# Altium schematic symbol library TMC4671-EVAL_V1_2.SchLib: 16 symbols
Pins are listed as number, name and electrical type; pins without a type are passive.

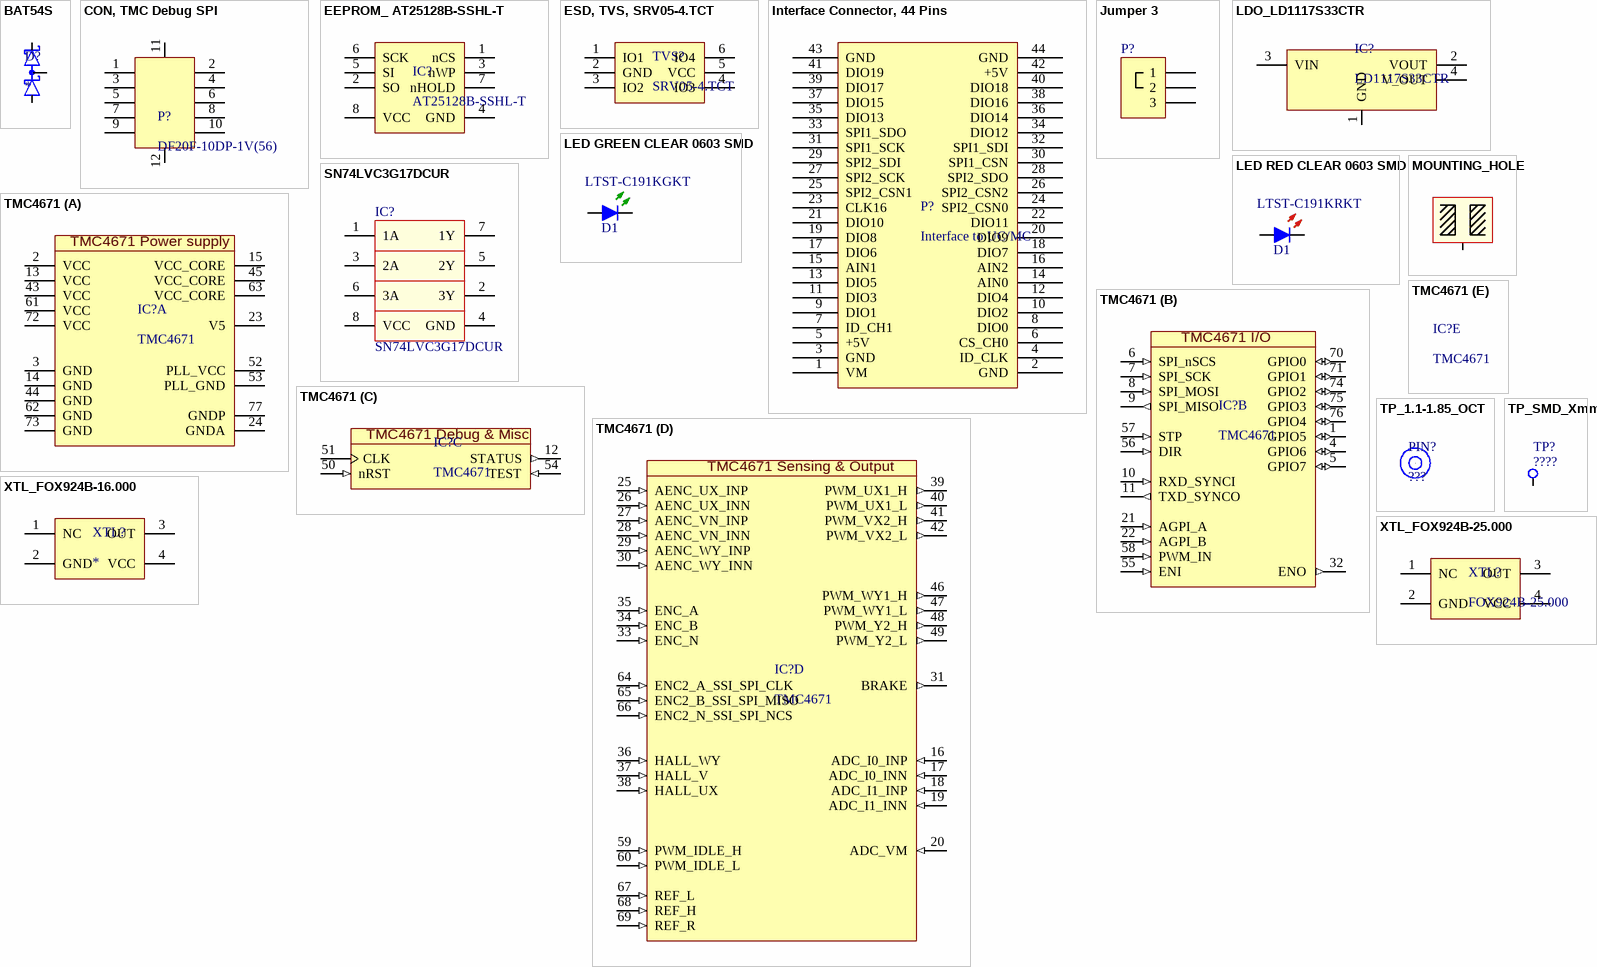
[diagram p0: symbols BAT54S to XTL_FOX924B-25.000]

## BAT54S
designator D?
Small Signal Schottky Diode, Dual Series, 30 V, 200 mA, 1 V, 600 mA, 125 °C; MPN: BAT54S; MF: TAIWAN SEMICONDUCTOR
footprint SOT95P237X130-3N (SOT23, 3-Leads, Body 2,90x2,37mm, Pitch 0,95mm, IPC Medium Density)
pins: 1 A1, 2 C2, 3 C1A2

## CON, TMC Debug SPI
designator P?, comment DF20F-10DP-1V(56)
Wire-To-Board Connector, 1 mm, 10 Contacts, Header, DF20 Series, Surface Mount, 2 Rows; MF: Hirose Electric Co Ltd; MPN: DF20F-10DP-1V(56)
footprint CON, TMC Debug SPI (Footprint not found)
pins: 1, 2, 3, 4, 5, 6, 7, 8, 9, 10, 11, 12

## EEPROM_ AT25128B-SSHL-T
designator IC?, comment AT25128B-SSHL-T
EEPROM, SPI, 128 Kbit, 16K x 8bit, 20 MHz, SOIC, 8 Pins; MF: MICROCHIP; MPN: AT25128B-SSHL-T
footprint SOP127P600X175-8N (SOP, 8-Leads, Body 4,92x3,90mm, Pitch 1,27mm, IPC Medium Density)
pins: 1 nCS, 2 SO, 3 nWP, 4 GND, 5 SI, 6 SCK, 7 nHOLD, 8 VCC

## ESD, TVS, SRV05-4.TCT
designator TVS?, comment SRV05-4.TCT
ESD Protection Device, TVS, 17.5 V, SOT-23, 6 Pins, 5 V, 300 W; MF: SEMTECH; MPN: SRV05-4.TCT
footprint SOT95P280X145-6N (SOT23, 6-Leads, Body 2,95x2,80mm, Pitch 0,95mm, IPC Medium Density)
pins: 1 IO1, 2 GND, 3 IO2, 4 IO3, 5 VCC, 6 IO4

## Interface Connector, 44 Pins
designator P?, comment Interface to UC/MC
Board-To-Board Connector, 2.54 mm, 44 Contacts, Receptacle, HLE Series, Surface Mount, 2 Rows; MPN: HLE-122-02-L-DV; MF: SAMTEC
footprint Interface_Connector
pins: 1 VM, 2 GND, 3 GND, 4 ID_CLK, 5 +5V, 6 CS_CH0, 7 ID_CH1, 8 DIO0, 9 DIO1, 10 DIO2, 11 DIO3, 12 DIO4, 13 DIO5, 14 AIN0, 15 AIN1, 16 AIN2, 17 DIO6, 18 DIO7, 19 DIO8, 20 DIO9, 21 DIO10, 22 DIO11, 23 CLK16, 24 SPI2_CSN0, 25 SPI2_CSN1, 26 SPI2_CSN2, 27 SPI2_SCK, 28 SPI2_SDO, 29 SPI2_SDI, 30 SPI1_CSN, 31 SPI1_SCK, 32 SPI1_SDI, 33 SPI1_SDO, 34 DIO12, 35 DIO13, 36 DIO14, 37 DIO15, 38 DIO16, 39 DIO17, 40 DIO18, 41 DIO19, 42 +5V, 43 GND, 44 GND

## Jumper 3
designator P?  (no BOM)
Jumper, 3-Pin
footprint TH_JMP_1X3
pins: 1, 2, 3

## LDO_LD1117S33CTR
designator IC?, comment LD1117S33CTR
Fixed LDO Voltage Regulator, 4.75V to 15V, 1.1V Dropout, 3.3Vout, 950mAout, SOT-223-4; MF: STMICROELECTRONICS; MPN: LD1117S33CTR
footprint SOT230P700X180-4N (SOT223, 4-Leads, Body 6,50x7,00mm (avg), Pitch 2,30mm, IPC Medium Density)
pins: 1 GND, 2 VOUT, 3 VIN, 4 V_OUT

## LED GREEN CLEAR 0603 SMD
designator D1, comment LTST-C191KGKT
Green 571nm LED Indication - Discrete 2V 0603 (1608 Metric); MF: Lite-On; Current rating: 20mA; MPN: LTST-C191KGKT; Colour: Green
footprint LED_0603
pins: 1 A, 2 K

## LED RED CLEAR 0603 SMD
designator D1, comment LTST-C191KRKT
Green 631nm LED Indication - Discrete 2V 0603 (1608 Metric); MF: Lite-On; Current rating: 20mA; Colour: Red; MPN: LTST-C191KRKT
footprint LED_0603
pins: 1 A, 2 K

## MOUNTING_HOLE
designator MNT?  (value not drawn)  (no BOM)
footprint MNT_HOLE_6.35-3.2
pins: 1

## SN74LVC3G17DCUR
designator IC?
Triple Schmitt-Trigger Buffer, 74LVC3G17, 1.65 V to 5.5 V, VSSOP-8; MF: TEXAS INSTRUMENTS; MPN: SN74LVC3G17DCUR
footprint TSSOP50P310X90-8L (TSSOP, 8-Leads, Body 2,00x2,30mm, Pitch 0,50mm, IPC High Density)
pins: 1 1A (power), 2 3Y (power), 3 2A (power), 4 GND (power), 5 2Y (power), 6 3A (power), 7 1Y (power), 8 VCC (power)

## TMC4671
designator IC?
MF: TRINAMIC; MPN: TMC4671
footprint QFN40P1050X650X90_HS-77N (QFN, 76-Leads, Body 10,50x6,50mm, Pitch 0,40mm, Thermal Pad 9,00x5,00mm, IPC Medium Density)
part A pins: 2 VCC (power), 3 GND (power), 13 VCC (power), 14 GND (power), 15 VCC_CORE (power), 23 V5 (power), 24 GNDA (power), 43 VCC (power), 44 GND (power), 45 VCC_CORE (power), 52 PLL_VCC (power), 53 PLL_GND (power), 61 VCC (power), 62 GND (power), 63 VCC_CORE (power), 72 VCC (power), 73 GND (power), 77 GNDP (power)
part B pins: 1 GPIO5 (io), 4 GPIO6 (io), 5 GPIO7 (io), 6 SPI_nSCS (in), 7 SPI_SCK (in), 8 SPI_MOSI (in), 9 SPI_MISO (out), 10 RXD_SYNCI (in), 11 TXD_SYNCO (out), 21 AGPI_A (in), 22 AGPI_B (in), 32 ENO (out), 55 ENI (in), 56 DIR (in), 57 STP (in), 58 PWM_IN (in), 70 GPIO0 (io), 71 GPIO1 (io), 74 GPIO2 (io), 75 GPIO3 (io), 76 GPIO4 (io)
part C pins: 12 STATUS (out), 50 nRST (in), 51 CLK, 54 TEST (in)
part D pins: 16 ADC_I0_INP (in), 17 ADC_I0_INN (in), 18 ADC_I1_INP (in), 19 ADC_I1_INN (in), 20 ADC_VM (in), 25 AENC_UX_INP (in), 26 AENC_UX_INN (in), 27 AENC_VN_INP (in), 28 AENC_VN_INN (in), 29 AENC_WY_INP (in), 30 AENC_WY_INN (in), 31 BRAKE (out), 33 ENC_N (in), 34 ENC_B (in), 35 ENC_A (in), 36 HALL_WY (in), 37 HALL_V (in), 38 HALL_UX (in), 39 PWM_UX1_H (out), 40 PWM_UX1_L (out), 41 PWM_VX2_H (out), 42 PWM_VX2_L (out), 46 PWM_WY1_H (out), 47 PWM_WY1_L (out), 48 PWM_Y2_H (out), 49 PWM_Y2_L (out), 59 PWM_IDLE_H (in), 60 PWM_IDLE_L (in), 64 ENC2_A_SSI_SPI_CLK (in), 65 ENC2_B_SSI_SPI_MISO (in), 66 ENC2_N_SSI_SPI_NCS (in), 67 REF_L (in), 68 REF_H (in), 69 REF_R (in)
part A text: TMC4671 Power supply
part B text: TMC4671 I/O
part C text: TMC4671 Debug & Misc
part D text: TMC4671 Sensing & Output

## TP_1.1-1.85_OCT
designator PIN?, comment ???  (no BOM)
TH testpoint, 1.1 hole, 1.85 pad, octagonal
footprint TP_1.1-1.85_OCT
pins: 1 (power)

## TP_SMD_Xmm
designator TP?, comment ????  (no BOM)
SMD testpoint, 1.2mm pad, round
footprint TP_SMD_1.2MM_ROUND
pins: 1

## XTL_FOX924B-16.000
designator XTL?
TCXO, 16 MHz, 2.5 ppm, SMD, 5mm x 3.2mm, HCMOS, 3.3 V, FOX924 Series; MPN: FOX924B-16.000; MF: FOX ELECTRONICS
footprint XTL_FOX924B-16.000
pins: 1 NC, 2 GND, 3 OUT, 4 VCC

## XTL_FOX924B-25.000
designator XTL?, comment FOX924B-25.000
TCXO, 25 MHz, 2.5 ppm, SMD, 5mm x 3.2mm, HCMOS, 3.3 V, FOX924 Series; MF: FOX ELECTRONICS; MPN: FOX924B-25.000
footprint XTL_FOX924B-16.000
pins: 1 NC, 2 GND, 3 OUT, 4 VCC